# Altium footprint library harwin.PcbLib: 3 footprints
Each footprint in its own frame and in the unit in brackets; x right, y up, seen from the top. Pads: shape width x height; smd on the part's side, far side on the other; paste and mask are expansions set on the pad; w line width, h text height; cw(c..) or ccw(c..) is an arc to the next point about the centre after c.
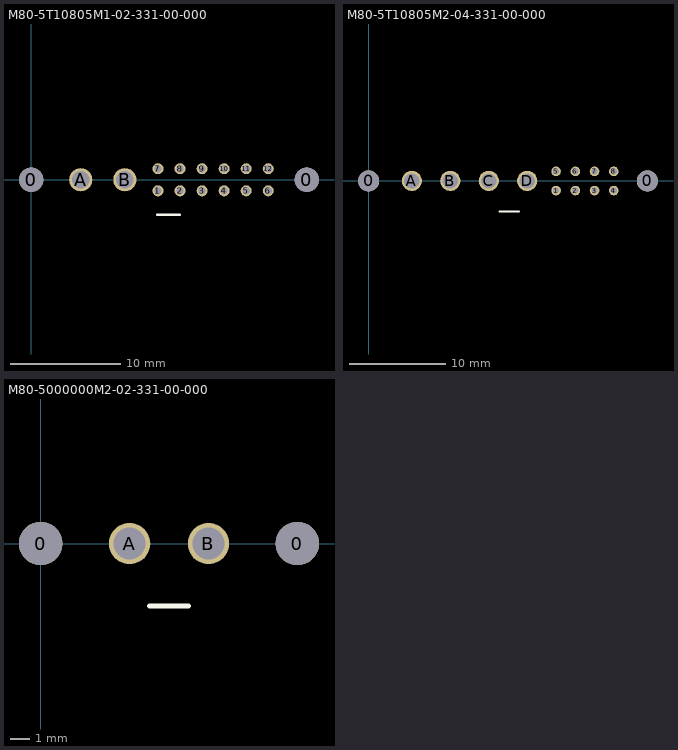
[diagram p0: the footprints below, top view; thin cyan lines are the x and y axes]

## M80-5T10805M1-02-331-00-000 [mm] "DataMate Connector"
pads (16):
  round 2.2 hole 2.2 unplated: 0(0,0) 0(25,0)
  round 1 hole 0.65: 1(11.5,-1) 2(13.5,-1) 3(15.5,-1) 4(17.5,-1) 5(19.5,-1) 6(21.5,-1) 7(11.5,1) 8(13.5,1) 9(15.5,1) 10(17.5,1) 11(19.5,1) 12(21.5,1)
  round 2.1 hole 1.6: A(4.5,0) B(8.5,0)
Top Overlay:
  lines w0.254: 11.462,-3.175 13.462,-3.175
3D body: height 25.23, standoff -2.92, extent -2.554,-2.748 27.446,3.302

## M80-5T10805M2-04-331-00-000 [mm] "DataMate Connector"
pads (14):
  round 2.2 hole 2.2 unplated: 0(0,0) 0(29,0)
  round 1 hole 0.65: 1(19.5,-1) 2(21.5,-1) 3(23.5,-1) 4(25.5,-1) 5(19.5,1) 6(21.5,1) 7(23.5,1) 8(25.5,1)
  round 2.1 hole 1.6: A(4.5,0) B(8.5,0) C(12.5,0) D(16.5,0)
Top Overlay:
  lines w0.254: 13.621,-3.175 15.621,-3.175
3D body: height 19.68, standoff -4.77, extent -2.522,-2.794 31.478,3.256

## M80-5000000M2-02-331-00-000 [mm] "DataMate Connector"
pads (4):
  round 2.2 hole 2.2 unplated: 0(0,0) 0(13,0)
  round 2.1 hole 1.6: A(4.5,0) B(8.5,0)
Top Overlay:
  lines w0.254: 5.5,-3.175 7.5,-3.175
3D body: height 19.57, standoff -5.45, extent -2.523,-2.748 15.477,3.302